# EAGLE library part MD-80S (library con-cuistack)
Mini-DIN - 8 Pin
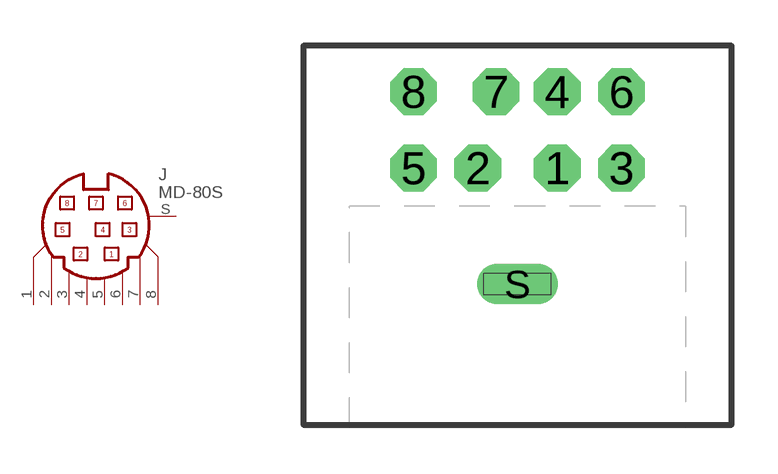
[diagram p1: symbol with the pads of MD-80S; footprint MD-80S]

Designator prefix J

## MD-80S  [MD-80S]
1  1  pas
2  2  pas
3  3  pas
4  4  pas
5  5  pas
6  6  pas
7  7  pas
8  8  pas
S  S  pas

## Footprint MD-80S (pad centres in mm)
Mini DIN - 8 Pin
drill 1.016 octagon: 1 1.3,8.5; 2 -1.3,8.5; 3 3.4,8.5; 4 1.3,11; 5 -3.4,8.5; 6 3.4,11; 7 -0.7,11; 8 -3.4,11
drill 0.813 long: S 0,4.7